# Altium schematic symbol library ERJ-6ENF7322V.SchLib: 1 symbol
Pins are listed as number, name and electrical type; pins without a type are passive.

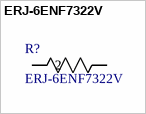
[diagram p0: symbol ERJ-6ENF7322V]

## ERJ-6ENF7322V
designator R?
Description; Manufacturer_Name: Panasonic; Copyright: Copyright (C) 2026 Ultra Librarian. All rights reserved.; Manufacturer_Part_Number: ERJ-6ENF7322V
footprint RC0805N_PAN
pins: 1, 2